# Altium schematic symbol library misc.SchLib: 12 symbols
Pins are listed as number, name and electrical type; pins without a type are passive.

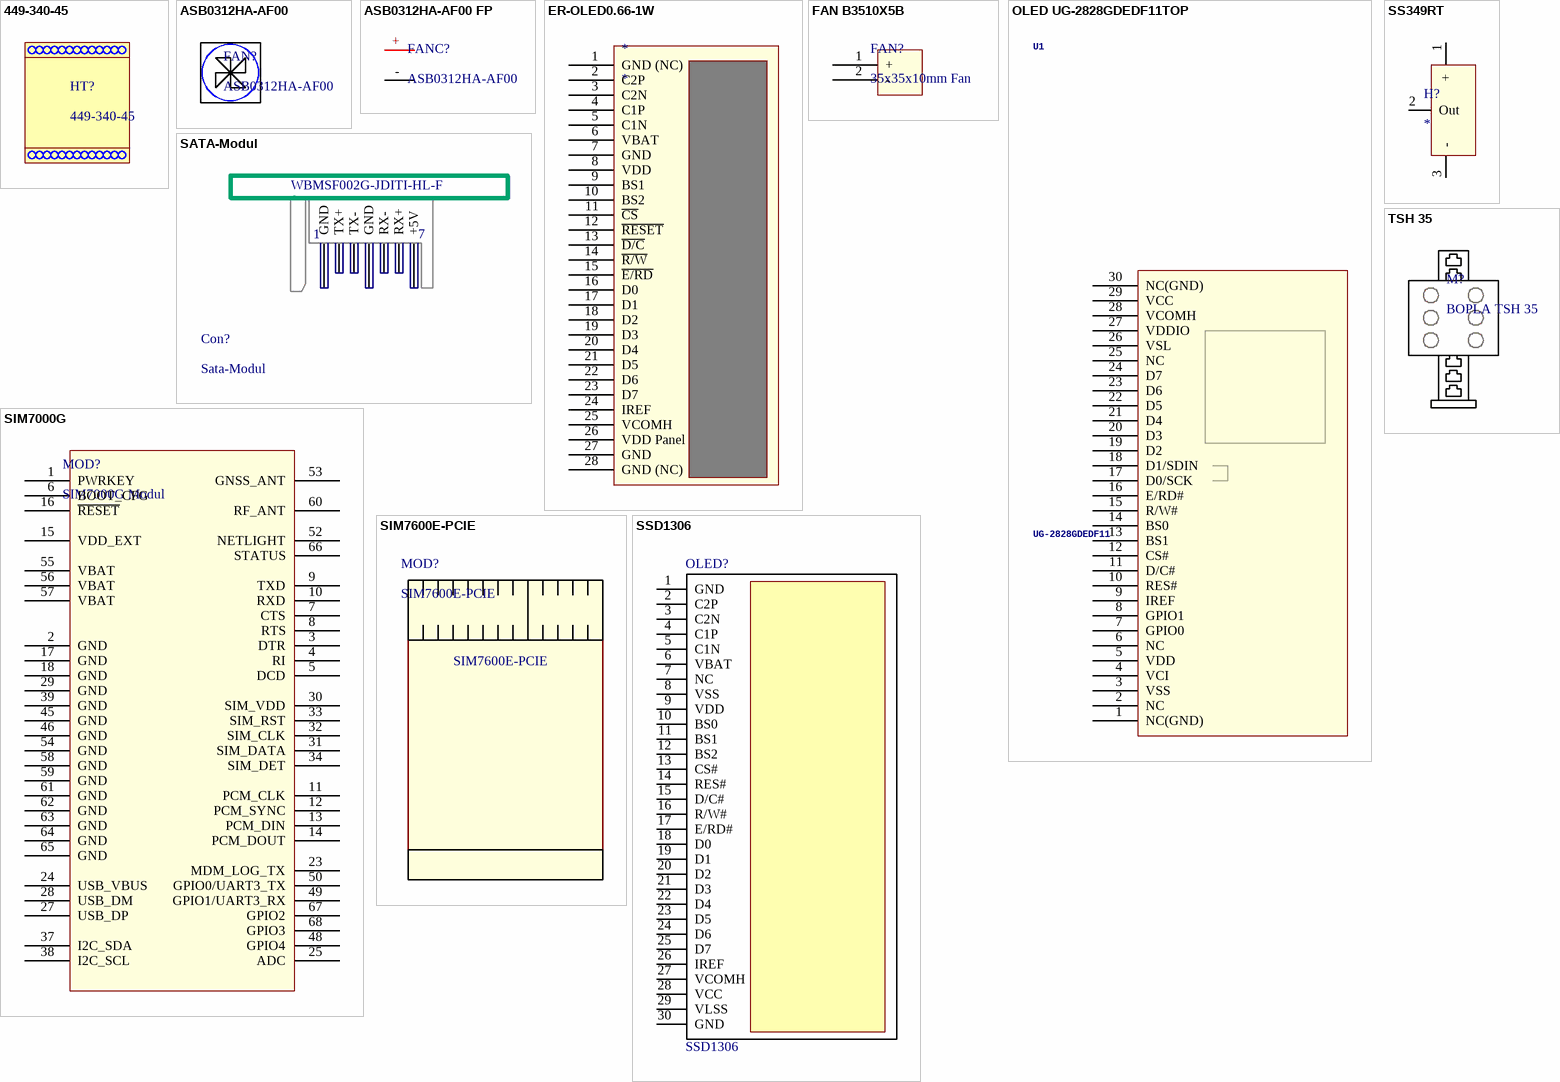
[diagram p0: symbols 449-340-45 to TSH 35]

## 449-340-45
designator HT?
footprint 449-340-45

## ASB0312HA-AF00
designator FAN?
footprint ASB0312HA-AF00 FAN

## ASB0312HA-AF00 FP
designator FANC?, comment ASB0312HA-AF00
footprint ASB0312HA-AF00 FP
pins: +, -

## ER-OLED0.66-1W
designator *
footprint ER-OLED0.66-1 - foled
pins: 1 GND (NC), 2 C2P, 3 C2N, 4 C1P, 5 C1N, 6 VBAT, 7 GND, 8 VDD, 9 BS1, 10 BS2, 11 ~{CS}, 12 ~{RESET}, 13 ~{D/C}, 14 ~{R/W}, 15 ~{E/RD}, 16 D0, 17 D1, 18 D2, 19 D3, 20 D4, 21 D5, 22 D6, 23 D7, 24 IREF, 25 VCOMH, 26 VDD Panel, 27 GND, 28 GND (NC)

## FAN B3510X5B
designator FAN?, comment 35x35x10mm Fan
footprint B3510X5B
pins: 1 +, 2 -

## OLED UG-2828GDEDF11TOP
designator U1, comment UG-2828GDEDF11
128x128 1.5" RGB OLED - UG-2828GDEDF11 30-Pin 0.5mm Pitch FPC Cable (Top+Bottom Contacts) - OMRON XF2M-3015-1A (Digikey: OR723TR-ND)This FPC connector has contacts on the top and bottom, but the appropriate pin needs to be selected depending on whether the OLED will be inserted right-side up (use the TOP pinout) or upside-down (use the BOTTOM pinout).
footprint FPC_XF2M-3015-1A
pins: 1 NC(GND), 2 NC, 3 VSS (power), 4 VCI (power), 5 VDD (power), 6 NC, 7 GPIO0, 8 GPIO1, 9 IREF, 10 RES#, 11 D/C#, 12 CS#, 13 BS1, 14 BS0, 15 R/W#, 16 E/RD#, 17 D0/SCK, 18 D1/SDIN, 19 D2, 20 D3, 21 D4, 22 D5, 23 D6, 24 D7, 25 NC, 26 VSL, 27 VDDIO (power), 28 VCOMH (power), 29 VCC (power), 30 NC(GND)

## SATA-Modul
designator Con?, comment Sata-Modul
Sata-Modul Firma deccaelectronic WBMSF002G-JDITI-HL-F
footprint Sata-Modul (Sata-Modul mit Molex Sata THT Stecker (http://www.digikey.de/product-detail/de/0678008005/WM19103-ND/1499151))
pins: 1 GND, 2 TX+, 3 TX-, 4 GND, 5 RX-, 6 RX+, 7 +5V
text: WBMSF002G-JDITI-HL-F

## SIM7000G
designator MOD?, comment SIM7000G Modul
footprint SIM24_24
pins: 1 PWRKEY, 2 GND, 3 DTR, 4 RI, 5 DCD, 6 BOOT_CFG, 7 CTS, 8 RTS, 9 TXD, 10 RXD, 11 PCM_CLK, 12 PCM_SYNC, 13 PCM_DIN, 14 PCM_DOUT, 15 VDD_EXT, 16 ~{RESET}, 17 GND, 18 GND, 23 MDM_LOG_TX, 24 USB_VBUS, 25 ADC, 27 USB_DP, 28 USB_DM, 29 GND, 30 SIM_VDD, 31 SIM_DATA, 32 SIM_CLK, 33 SIM_RST, 34 SIM_DET, 37 I2C_SDA, 38 I2C_SCL, 39 GND, 45 GND, 46 GND, 48 GPIO4, 49 GPIO1/UART3_RX, 50 GPIO0/UART3_TX, 52 NETLIGHT, 53 GNSS_ANT, 54 GND, 55 VBAT, 56 VBAT, 57 VBAT, 58 GND, 59 GND, 60 RF_ANT, 61 GND, 62 GND, 63 GND, 64 GND, 65 GND, 66 STATUS, 67 GPIO2, 68 GPIO3

## SIM7600E-PCIE
designator MOD?
SIM7600E PCIe Modul
footprint SIM7600E-PCIE

## SS349RT
designator H?
SENSOR, HALL EFFECT, UNIPOLAR, SOT-23
footprint SOT23-GSD; pin to pad 1>G 2>S 3>D
pins: 1 +, 2 Out, 3 -

## SSD1306
designator OLED?
footprint SSD1306 straight
pins: 1 GND, 2 C2P, 3 C2N, 4 C1P, 5 C1N, 6 VBAT, 7 NC, 8 VSS, 9 VDD, 10 BS0, 11 BS1, 12 BS2, 13 CS#, 14 RES#, 15 D/C#, 16 R/W#, 17 E/RD#, 18 D0, 19 D1, 20 D2, 21 D3, 22 D4, 23 D5, 24 D6, 25 D7, 26 IREF, 27 VCOMH, 28 VCC, 29 VLSS, 30 GND

## TSH 35
designator M?, comment BOPLA TSH 35
Hutschienenhalter / Bopla-Serie Combi-Norm
footprint BOPLA TSH 35